# Altium footprint library MicroSMP (DO-219AD).PcbLib: 1 footprints
Each footprint in its own frame and in the unit in brackets; x right, y up, seen from the top. Pads: shape width x height; smd on the part's side, far side on the other; paste and mask are expansions set on the pad; w line width, h text height; cw(c..) or ccw(c..) is an arc to the next point about the centre after c.
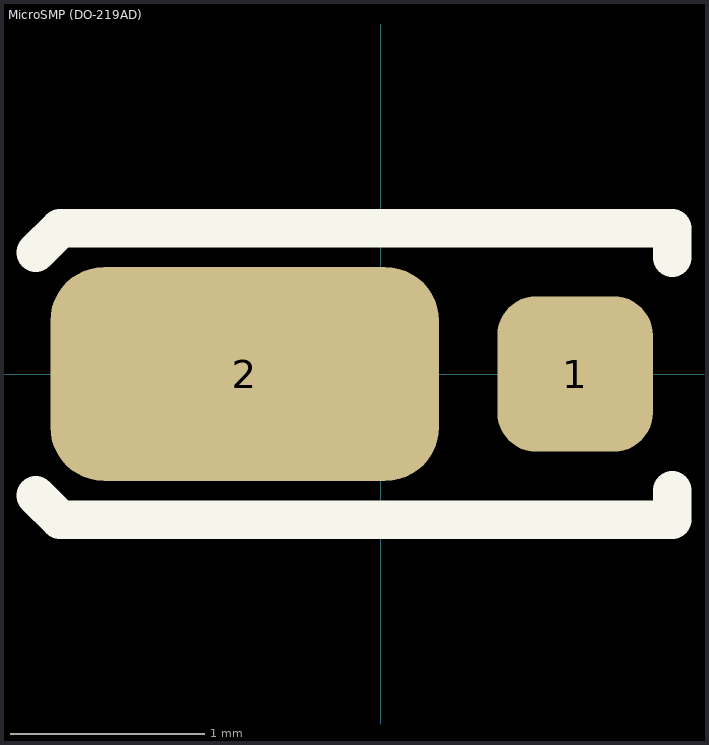
[diagram p0: the footprint, top view; thin cyan lines are the x and y axes]

## MicroSMP (DO-219AD) [mm]
height 1
pads (2):
  rrect50% 0.8x0.8 smd: 1(1,0)
  rrect50% 2x1.1 smd: 2(-0.7,0)
Top Overlay:
  lines w0.2: -1.775,-0.625 -1.65,-0.75 -1.35,-0.75 1.5,-0.75 1.5,-0.6 ; -1.775,0.625 -1.65,0.75 -1.35,0.75 1.5,0.75 1.5,0.6
3D body "User Library-DO-219AD.step": height 0.7, standoff -0.01, extent -1.25,-0.65 1.25,0.65